# Altium footprint library FQ1045A-3.6864.PcbLib: 1 footprints
Each footprint in its own frame and in the unit in brackets; x right, y up, seen from the top. Pads: shape width x height; smd on the part's side, far side on the other; paste and mask are expansions set on the pad; w line width, h text height; cw(c..) or ccw(c..) is an arc to the next point about the centre after c.
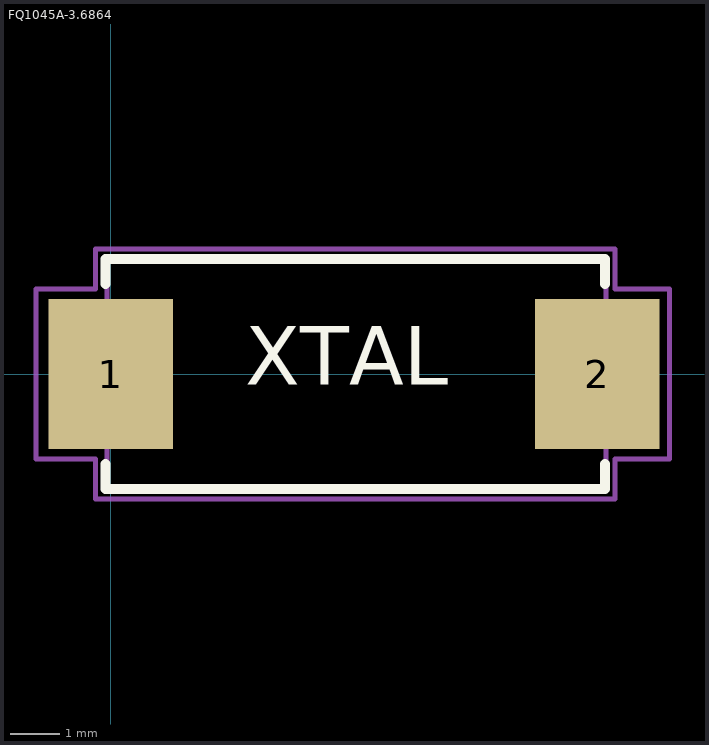
[diagram p0: the footprint, top view; thin cyan lines are the x and y axes]

## FQ1045A-3.6864 [mm] "FOX ELECTRONICS - FQ1045A-3.6864 - CRYSTAL, 4.5X10MM, CER, 3.6864MHZ"
height 1.7
pads (2):
  rect 2.5x3 smd: 1(0,0) 2(9.75,0)
Top Overlay:
  lines w0.2: -0.1,-1.8 -0.1,-2.3 1.7,-2.3 9.9,-2.3 9.9,-1.8 ; -0.1,1.8 -0.1,2.3 9.9,2.3 9.9,1.8
  text "XTAL" at 2.7,-0.6 h2
Mechanical 1:
  lines w0.1: -0.075,-2.25 -0.075,2.25 9.925,2.25 9.925,-2.25 -0.075,-2.25
Mechanical 15:
  lines w0.1: -1.5,-1.7 -1.5,1.7 -0.3,1.7 -0.3,2.5 10.1,2.5 10.1,1.7 11.2,1.7 11.2,-1.7 10.1,-1.7 10.1,-2.5 -0.3,-2.5 -0.3,-1.7 -1.5,-1.7
3D body: height 1.7, standoff 0, extent -0.075,-2.25 9.925,2.25